# EAGLE library part USB_MINI (library Next_Make_REX_2016)
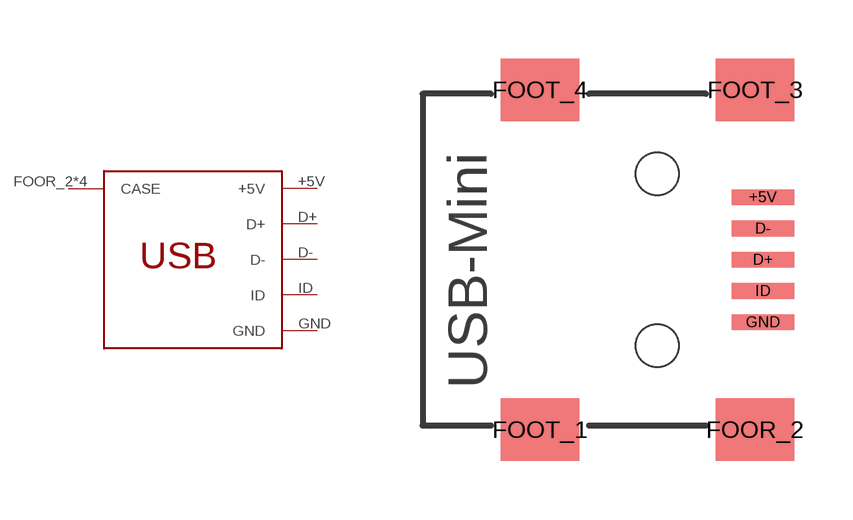
[diagram p0: symbol with the pads of SMT_MINI_USB; footprint SMT_MINI_USB]

Designator prefix -

## USB_MINI  [SMT_MINI_USB]
+5V  +5V
D+  D+
D-  D-
FOOR_2  CASE
FOOT_1  CASE
FOOT_3  CASE
FOOT_4  CASE
GND  GND
ID  ID

## Footprint SMT_MINI_USB (pad centres in mm)
smd 1.6 x 0.4: +5V 8.7,1.6; D+ 8.7,0; D- 8.7,0.8; GND 8.7,-1.6; ID 8.7,-0.8
smd 2 x 1.6: FOOR_2 8.5,-4.35; FOOT_1 3,-4.35; FOOT_3 8.5,4.35; FOOT_4 3,4.35
hole 1.1 at 6,-2.2
hole 1.1 at 6,2.2